# Altium footprint library FNB34060T.PcbLib: 1 footprints
Each footprint in its own frame and in the unit in brackets; x right, y up, seen from the top. Pads: shape width x height; smd on the part's side, far side on the other; paste and mask are expansions set on the pad; w line width, h text height; cw(c..) or ccw(c..) is an arc to the next point about the centre after c.
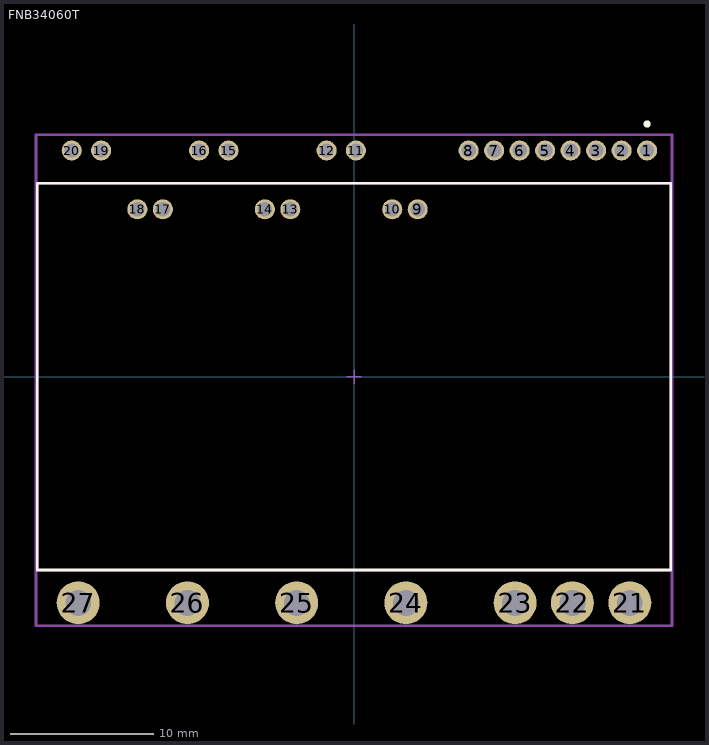
[diagram p0: the footprint, top view; thin cyan lines are the x and y axes]

## FNB34060T [mm]
pads (27):
  round 1.4 hole 1 paste-1000: 1(20.447,15.78) 2(18.669,15.78) 3(16.891,15.78) 4(15.113,15.78) 5(13.335,15.78) 6(11.557,15.78) 7(9.779,15.78) 8(8.001,15.78) 9(4.445,11.68) 10(2.667,11.68) 11(0.136,15.78) 12(-1.914,15.78) 13(-4.445,11.68) 14(-6.223,11.68) 15(-8.754,15.78) 16(-10.804,15.78) 17(-13.335,11.68) 18(-15.113,11.68) 19(-17.644,15.78) 20(-19.694,15.78)
  round 3 hole 1.8 paste-1000: 21(19.24,-15.78) 22(15.24,-15.78) 23(11.24,-15.78) 24(3.62,-15.78) 25(-4,-15.78) 26(-11.62,-15.78) 27(-19.24,-15.78)
Top Overlay:
  circle w0.25: c20.447,17.63 r0.125
  lines w0.2: -22.1,-13.5 -22.1,13.5 22.1,13.5 22.1,-13.5 -22.1,-13.5
Mechanical 10:
  lines w0.2: -22.2,-17.38 -22.2,16.88 22.2,16.88 22.2,-17.38 -22.2,-17.38
  text ".Designator" at 0,-0.25 h1
Mechanical 12:
  lines w0.15: -22.1,-13.5 -22.1,13.5 22.1,13.5 22.1,-13.5 -22.1,-13.5
Mechanical 15:
  lines w0.1: -0.5,0 0.5,0 ; 0,-0.5 0,0.5
  lines w0.2: -22.2,-17.38 -22.2,16.88 22.2,16.88 22.2,-17.38 -22.2,-17.38
3D body "FNB34060T.STEP": height 5.61, standoff -2.59, extent -21.961,-16.101 21.968,16.382